# EAGLE library part ADM1085 (library analog-devices)
SIMPLE SEQUENCER (OPEN DRAIN)
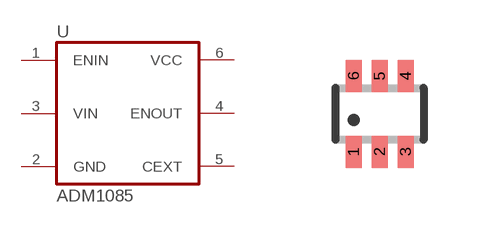
[diagram p72: symbol with the pads of SC70-6L; footprint SC70-6L]

Designator prefix U

## ADM1085  [SC70-6L]
1  ENIN  in
2  GND  in
3  VIN  in
4  ENOUT  out
5  CEXT  in
6  VCC  in

## Footprint SC70-6L (pad centres in mm)
SC-70 Package
smd 0.4 x 0.8: 1 -0.65,-0.95; 2 0,-0.95; 3 0.65,-0.95; 4 0.65,0.95; 5 0,0.95; 6 -0.65,0.95